# EAGLE library part YMZ284 (library yamaha)
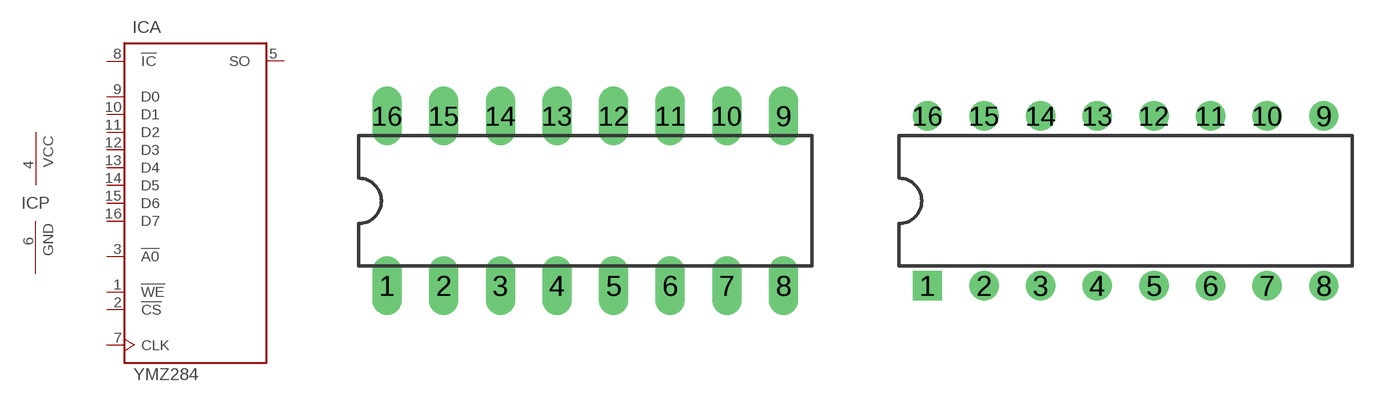
[diagram p3: symbol with the pads of DIL16; footprints DIL16, DIL16-RP]

Designator prefix IC; gates A=YMZ284 P=PWR-GND

## YMZ284  [DIL16]
1  A:!WE  in
2  A:!CS  in
3  A:!A0  in
4  P:VCC  pwr
5  A:SO  out
6  P:GND  pwr
7  A:CLK  in
8  A:!IC  in
9  A:D0  in
10  A:D1  in
11  A:D2  in
12  A:D3  in
13  A:D4  in
14  A:D5  in
15  A:D6  in
16  A:D7  in

## YMZ284-R  [DIL16-RP]
Pads as for DIL16

## Footprint DIL16 (pad centres in mm)
Dual In Line Package
drill 0.813 long: 1 -8.89,-3.81; 2 -6.35,-3.81; 3 -3.81,-3.81; 4 -1.27,-3.81; 5 1.27,-3.81; 6 3.81,-3.81; 7 6.35,-3.81; 8 8.89,-3.81; 9 8.89,3.81; 10 6.35,3.81; 11 3.81,3.81; 12 1.27,3.81; 13 -1.27,3.81; 14 -3.81,3.81; 15 -6.35,3.81; 16 -8.89,3.81

## Footprint DIL16-RP (pad centres in mm)
drill 0.813 square: 1 -8.89,-3.81
drill 0.813: 2 -6.35,-3.81; 3 -3.81,-3.81; 4 -1.27,-3.81; 5 1.27,-3.81; 6 3.81,-3.81; 7 6.35,-3.81; 8 8.89,-3.81; 9 8.89,3.81; 10 6.35,3.81; 11 3.81,3.81; 12 1.27,3.81; 13 -1.27,3.81; 14 -3.81,3.81; 15 -6.35,3.81; 16 -8.89,3.81